# Altium schematic symbol library Common_Modules.SchLib: 7 symbols
Pins are listed as number, name and electrical type; pins without a type are passive.

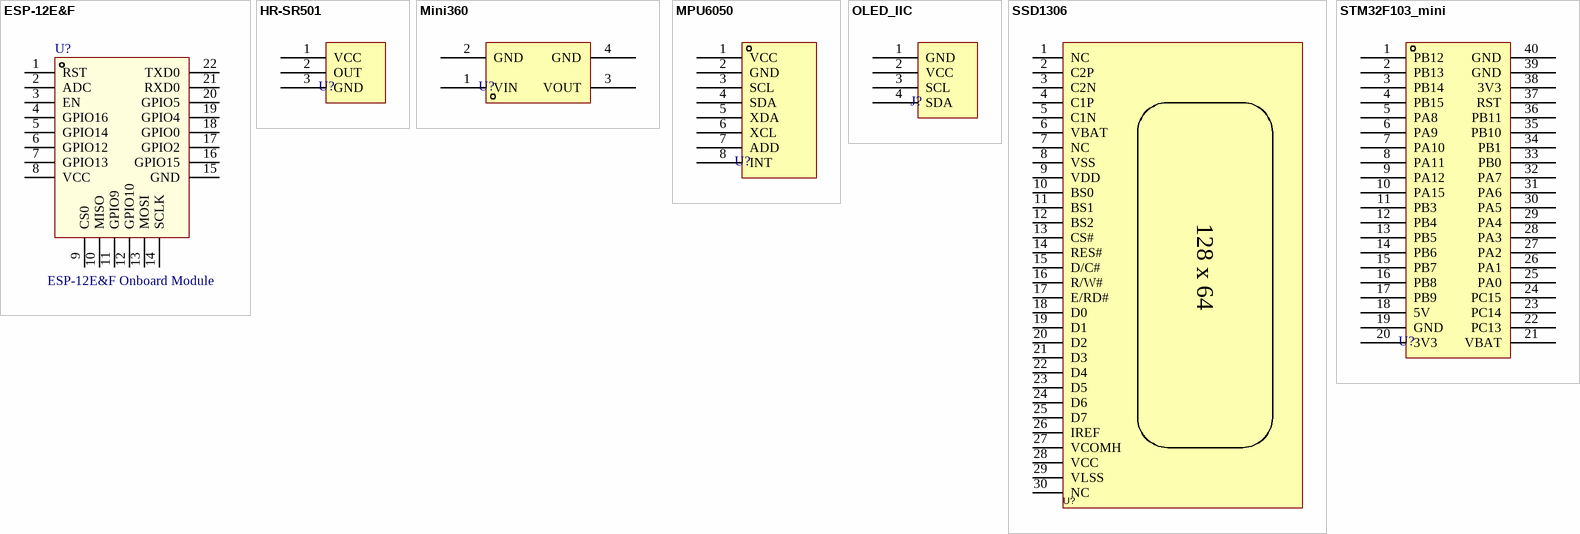
[diagram p0: symbols ESP-12E&F to STM32F103_mini]

## ESP-12E&F
designator U?, comment ESP-12E&F Onboard Module
footprint ESP-12E
pins: 1 RST, 2 ADC, 3 EN, 4 GPIO16, 5 GPIO14, 6 GPIO12, 7 GPIO13, 8 VCC, 9 CS0, 10 MISO, 11 GPIO9, 12 GPIO10, 13 MOSI, 14 SCLK, 15 GND, 16 GPIO15, 17 GPIO2, 18 GPIO0, 19 GPIO4, 20 GPIO5, 21 RXD0, 22 TXD0

## HR-SR501
designator U?  (value not drawn)
人体红外感应模块
footprint HR-SR501 (人体红外感应模块)
pins: 1 VCC, 2 OUT, 3 GND

## Mini360
designator U?  (value not drawn)
超小体积DC-DC同步整流降压模块
footprint Mini360
pins: 1 VIN, 2 GND, 3 VOUT, 4 GND

## MPU6050
designator U?  (value not drawn)
GY-521
footprint MPU6050 (GY-521)
pins: 1 VCC, 2 GND, 3 SCL, 4 SDA, 5 XDA, 6 XCL, 7 ADD, 8 INT

## OLED_IIC
designator J?  (value not drawn)
彩色屏或较新版
footprint OLED (0.96 IIC)
pins: 1 GND, 2 VCC, 3 SCL, 4 SDA

## SSD1306
designator U?, comment VG-2864KSWEG01  (value not drawn)
Manufacturer: WiseChip(智晶光电); Add into BOM: yes; Main Control Chip: SSD1306; Name: VG-2864KSWEG01; Symbol: VG-2864KSWEG01; Device: VG-2864KSWEG01; LCSC Part Name: 0.96”128x64白色 VG-2864KSWEG01; Supplier Part: C194313; Manufacturer Part: VG-2864KSWEG01; Supplier Footprint: -; JLCPCB Part Class: Extended Part; Datasheet: https://atta.szlcsc.com/upload/public/pdf/source/20190118/C194313_EB7CEF44C1C1CB8B071218A368D72B17.pdf; Supplier: LCSC; Convert to PCB: yes; Size: 0.96
3D model OLED_L26.7-W15.5-H1.4-0.96-30P-P0.70-12864
footprint SSD1306 (OLED_0.96-30P-P0.70-12864)
pins: 1 NC, 2 C2P, 3 C2N, 4 C1P, 5 C1N, 6 VBAT, 7 NC, 8 VSS, 9 VDD, 10 BS0, 11 BS1, 12 BS2, 13 CS#, 14 RES#, 15 D/C#, 16 R/W#, 17 E/RD#, 18 D0, 19 D1, 20 D2, 21 D3, 22 D4, 23 D5, 24 D6, 25 D7, 26 IREF, 27 VCOMH, 28 VCC, 29 VLSS, 30 NC
text: 128 x 64

## STM32F103_mini
designator U?  (value not drawn)
STM32F1最小系统板
footprint STM32F103_mini
pins: 1 PB12, 2 PB13, 3 PB14, 4 PB15, 5 PA8, 6 PA9, 7 PA10, 8 PA11, 9 PA12, 10 PA15, 11 PB3, 12 PB4, 13 PB5, 14 PB6, 15 PB7, 16 PB8, 17 PB9, 18 5V, 19 GND, 20 3V3, 21 VBAT, 22 PC13, 23 PC14, 24 PC15, 25 PA0, 26 PA1, 27 PA2, 28 PA3, 29 PA4, 30 PA5, 31 PA6, 32 PA7, 33 PB0, 34 PB1, 35 PB10, 36 PB11, 37 RST, 38 3V3, 39 GND, 40 GND